# Altium schematic symbol library Componentes_base.SchLib: 431 symbols (part 4 of 12)
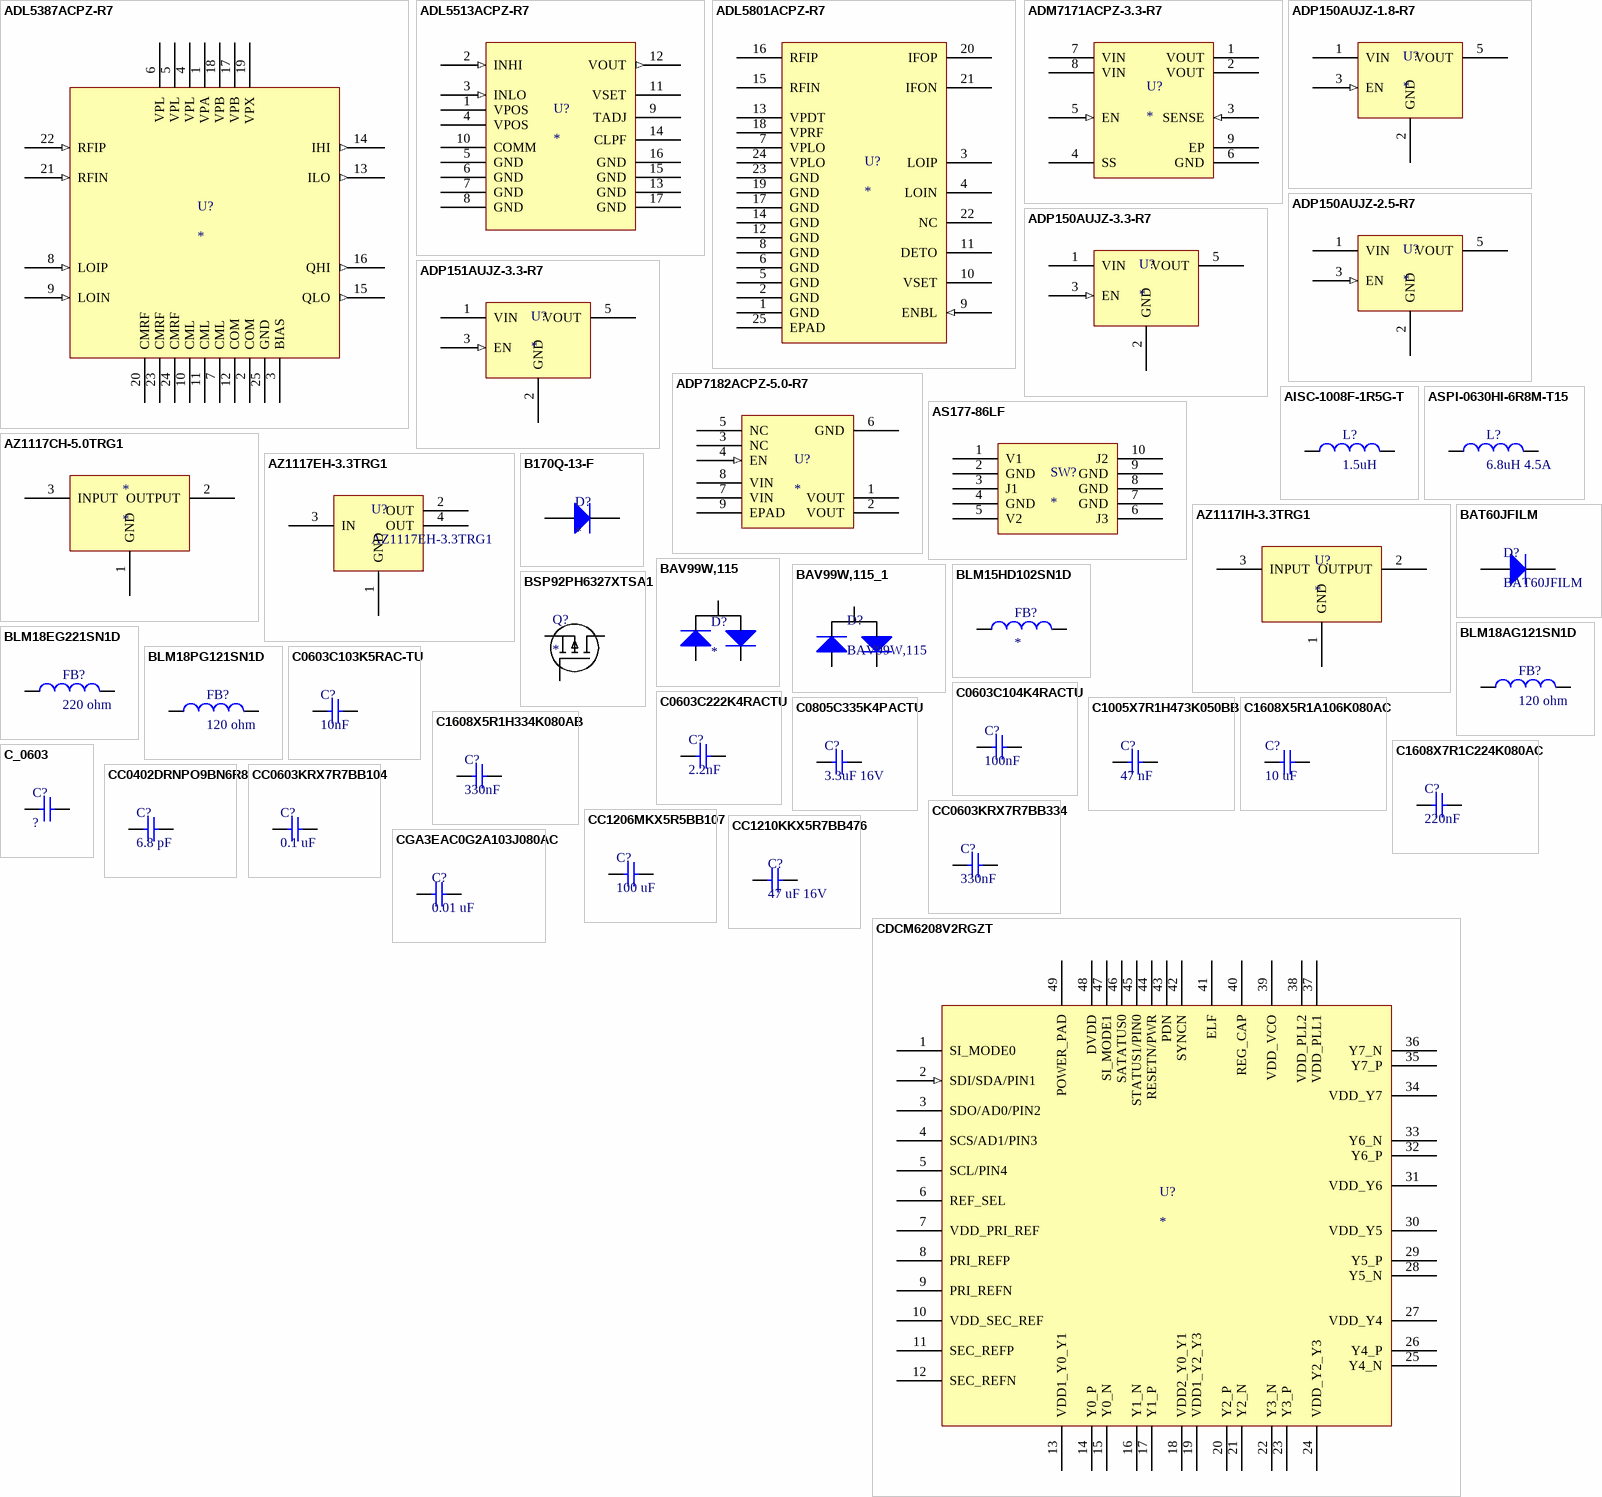
[diagram p17: symbols ADL5387ACPZ-R7 to CGA3EAC0G2A103J080AC]

## CC0402DRNPO9BN6R8
designator C?, comment 6.8 pF
CAP CER 6.8PF 50V NPO 0402; Manufacturer: Yageo; Manufacturer Part Number: CC0402DRNPO9BN6R8; Tolerance: ±0.5pF; Temperature Coefficient: C0G, NP0; Supplier 1: Digi-Key; RoHS: RoHS Compliant; Category: Capacitors; Stock 1: 8737; Pricing 1: 1=0.09, 10=0.019, 25=0.0132, 50=0.0098, 100=0.0081, 250=0.0068, 500=0.0058, 1000=0.00456, 5000=0.00381 (EUR); Packaging: Cut Tape (CT); Part Status: Active; Capacitance: 6.8pF; Voltage - Rated: 50V; Operating Temperature: -55°C ~ 125°C; Features: -; Ratings: -; Applications: General Purpose; Failure Rate: -; Mounting Type: Surface Mount, MLCC; Package / Case: 0402 (1005 Metric); Size / Dimension: 0.039" L x 0.020" W (1.00mm x 0.50mm); Height - Seated (Max): -; Thickness (Max): 0.022" (0.55mm); Lead Spacing: -; Lead Style: -; ComponentLink1URL: http://www.yageo.com/NewPortal/yageodocoutput?fileName=/pdf/MLCC/UPY-GP_NP0_16V-to-50V_14.pdf; ComponentLink1Description: http://www.yageo.com/NewPortal/yageodocoutput?fileName=/pdf/MLCC/UPY-GP_NP0_16V-to-50V_14.pdf; Supplier Part Number 1: 311-1637-1-ND
footprint Chip2PinSM127P600-8N_CAP0402
pins: 1, 2

## CC0603KRX7R7BB104
designator C?, comment 0.1 uF
CAP CER 0.1UF 16V X7R 0603; Manufacturer: Yageo; Manufacturer Part Number: CC0603KRX7R7BB104; Tolerance: 10; Capacitance: 100; Voltage Rating: 16; Min Temperature: -55; Material: Ceramic; Supplier 1: Digikey; Stock 1: 2351469; Pricing 1: 1=0.1, 10=0.019, 25=0.014, 50=0.0104, 100=0.0085, 250=0.0071, 500=0.0061, 1000=0.0048 (USD); Mount: Surface Mount; Case/Package: 0603; Pins: 2; Case Code (Metric): 1608; Case Code (Imperial): 0603; Min Operating Temperature: -55; Max Operating Temperature: 125; Dielectric: X7R; Voltage Rating (DC): 16; Package Quantity: 4000; Packaging: Tape and Reel; Termination: SMD; Composition: Ceramic; Voltage: 16; Length: 1.6; Height: 0.8; Width: 0.8; Thickness: 0.035; Depth: 0.8; Radiation Hardening: No; REACH SVHC: No SVHC; ComponentLink1URL: https://datasheet.ciiva.com/11786/0900766b80d84f1d-11786077.pdf; ComponentLink1Description: https://datasheet.ciiva.com/11786/0900766b80d84f1d-11786077.pdf; ComponentLink2URL: https://datasheet.ciiva.com/15165/getdatasheetpartid-63554-15165387.pdf; ComponentLink2Description: https://datasheet.ciiva.com/15165/getdatasheetpartid-63554-15165387.pdf; ComponentLink3URL: https://datasheet.ciiva.com/13395/upy-gphc-x7r-6-3v-to-50v-8-13395674.pdf; ComponentLink3Description: https://datasheet.ciiva.com/13395/upy-gphc-x7r-6-3v-to-50v-8-13395674.pdf; ComponentLink4URL: https://datasheet.ciiva.com/46430/1734573-46430156.pdf; ComponentLink4Description: https://datasheet.ciiva.com/46430/1734573-46430156.pdf; ComponentLink5URL: https://datasheet.ciiva.com/11464/upy-gphc-x7r-6-3v-to-50v-8-11464735.pdf; ComponentLink5Description: https://datasheet.ciiva.com/11464/upy-gphc-x7r-6-3v-to-50v-8-11464735.pdf; ComponentLink6URL: https://datasheet.ciiva.com/7978/1489800-7978141.pdf; ComponentLink6Description: https://datasheet.ciiva.com/7978/1489800-7978141.pdf; ComponentLink7URL: https://datasheet.ciiva.com/28450/1489800-28450552.pdf; ComponentLink7Description: https://datasheet.ciiva.com/28450/1489800-28450552.pdf; ComponentLink8URL: https://datasheet.ciiva.com/16625/upy-gphc-x7r-6-3v-to-50v-8-16625526.pdf; ComponentLink8Description: https://datasheet.ciiva.com/16625/upy-gphc-x7r-6-3v-to-50v-8-16625526.pdf; ComponentLink9URL: https://datasheet.ciiva.com/144/mlccorderingcode-144182.pdf; ComponentLink9Description: https://datasheet.ciiva.com/144/mlccorderingcode-144182.pdf; ComponentLink10URL: https://datasheet.ciiva.com/8033/1734573-8033797.pdf; ComponentLink10Description: https://datasheet.ciiva.com/8033/1734573-8033797.pdf; ComponentLink11URL: https://datasheet.ciiva.com/144/mlccorderingcode-144184.pdf; ComponentLink11Description: https://datasheet.ciiva.com/144/mlccorderingcode-144184.pdf; ComponentLink12URL: https://datasheet.ciiva.com/8033/70765-8033799.pdf; ComponentLink12Description: https://datasheet.ciiva.com/8033/70765-8033799.pdf; ComponentLink13URL: https://datasheet.ciiva.com/144/mlccorderingcode-144183.pdf; ComponentLink13Description: https://datasheet.ciiva.com/144/mlccorderingcode-144183.pdf; Supplier Part Number 1: 311-1088-1-ND
footprint CAPC1608X10L- 0603
footprint 0603 Cap (Chip Capacitor, Body 1.6x0.8mm, IPC High Density)
pins: 1, 2

## CC0603KRX7R7BB334
designator C?, comment 330nF
CAP CER 0.33UF 16V X7R 0603; Manufacturer: Yageo; Manufacturer Part Number: CC0603KRX7R7BB334; Capacitance: 0.33µF; Tolerance: ±10%; Notification: Current market demand for these product types have resulted in fluctuating and extending lead times. Lead times may differ.; Supplier 1: Digi-Key; RoHS: RoHS Compliant; Category: Capacitors; Stock 1: 26937; Pricing 1: 1=0.09, 10=0.065, 25=0.0476, 50=0.0358, 100=0.0292, 250=0.0244, 500=0.02084, 1000=0.01637 (EUR); Packaging: Digi-Reel®; Part Status: Active; Voltage - Rated: 16V; Temperature Coefficient: X7R; Operating Temperature: -55°C ~ 125°C; Features: -; Ratings: -; Applications: General Purpose; Failure Rate: -; Mounting Type: Surface Mount, MLCC; Package / Case: 0603 (1608 Metric); Size / Dimension: 0.063" L x 0.031" W (1.60mm x 0.80mm); Height - Seated (Max): -; Thickness (Max): 0.035" (0.90mm); Lead Spacing: -; Lead Style: -; ComponentLink1URL: http://www.yageo.com/documents/recent/UPY-GPHC_X7R_6.3V-to-50V_17.pdf; ComponentLink1Description: http://www.yageo.com/documents/recent/UPY-GPHC_X7R_6.3V-to-50V_17.pdf; Supplier Part Number 1: 311-2081-6-ND; Supplier 2: Digi-Key; Stock 2: 813; Pricing 2: 1=0.1, 10=0.076, 100=0.034, 500=0.02428, 1000=0.01907, 2500=0.01734, 5000=0.01596 (EUR); ComponentLink2URL: http://datasheets.avx.com/X7RDielectric.pdf; ComponentLink2Description: http://datasheets.avx.com/X7RDielectric.pdf; Supplier Part Number 2: 478-10124-1-ND
footprint 0603 Cap (Chip Capacitor, Body 1.6x0.8mm, IPC High Density)
pins: 1, 2

## CC1206MKX5R5BB107
designator C?, comment 100 uF
CAP CER 100UF 6.3V X5R 1206; Manufacturer: Yageo; Manufacturer Part Number: CC1206MKX5R5BB107; Capacitance: 100µF; Tolerance: ±20%; Supplier 1: Digi-Key; RoHS: RoHS Compliant; Category: Capacitors; Stock 1: 34925; Pricing 1: 1=0.53, 10=0.378, 25=0.3228, 50=0.2858, 100=0.249, 250=0.21208, 500=0.1844, 1000=0.15675 (EUR); Packaging: Cut Tape (CT); Part Status: Active; Voltage - Rated: 6.3V; Temperature Coefficient: X5R; Operating Temperature: -55°C ~ 85°C; Features: -; Ratings: -; Applications: General Purpose; Failure Rate: -; Mounting Type: Surface Mount, MLCC; Package / Case: 1206 (3216 Metric); Size / Dimension: 0.126" L x 0.063" W (3.20mm x 1.60mm); Height - Seated (Max): -; Thickness (Max): 0.075" (1.90mm); Lead Spacing: -; Lead Style: -; ComponentLink1URL: http://www.yageo.com/documents/recent/UPY-GPHC_X5R_4V-to-50V_23.pdf; ComponentLink1Description: http://www.yageo.com/documents/recent/UPY-GPHC_X5R_4V-to-50V_23.pdf; Supplier Part Number 1: 311-1991-1-ND
footprint CAPC3216X09L
pins: 1, 2

## CC1210KKX5R7BB476
designator C?, comment 47 uF 16V
CAP CER 47UF 16V X5R 1210; Manufacturer: Yageo; Manufacturer Part Number: CC1210KKX5R7BB476; Capacitance: 47µF; Tolerance: ±10%; Supplier 1: Digi-Key; RoHS: RoHS Compliant; Category: Capacitors; Stock 1: 5700; Pricing 1: 1=0.81, 10=0.688, 25=0.5708, 100=0.4021, 250=0.33724 (EUR); Packaging: Cut Tape (CT); Voltage - Rated: 16V; Temperature Coefficient: X5R; Mounting Type: Surface Mount, MLCC; Operating Temperature: -55°C ~ 85°C; Applications: General Purpose; Ratings: -; Package / Case: 1210 (3225 Metric); Size / Dimension: 0.126" L x 0.098" W (3.20mm x 2.50mm); Height - Seated (Max): -; Thickness (Max): 0.106" (2.70mm); Lead Spacing: -; Features: -; Lead Style: -; ComponentLink1URL: http://www.yageo.com/documents/recent/UPY-GPHC_X5R_4V-to-50V_19.pdf; ComponentLink1Description: http://www.yageo.com/documents/recent/UPY-GPHC_X5R_4V-to-50V_19.pdf; Supplier Part Number 1: 311-2019-1-ND
footprint CAPC3225X27L (Chip Capacitor, 2-Leads, Body 3,20x2,50mm, IPC High Density)
pins: 1, 2

## CDCM6208V2RGZT
designator U?
Clock Synthesizer/Jitter Cleaner 2:8 Ultra Low Power Low Jitter Clock Gen; Manufacturer: Texas Instruments; Manufacturer Part Number: CDCM6208V2RGZT; Number of Outputs: 8 Output; Input Level: CML, LVPECL, LVDS, LVCMOS, XTAL; Max Input Freq: 100 MHz; Max Output Freq: 800 MHz; Output Level: CML, HCSL, LVCMOS, LVDS, LVPECL; Supply Voltage - Max: 3.3 V; Supply Voltage - Min: - 0.5 V; PLL: Yes with Bypass; Input: CML, LVCMOS, LVDS, LVPECL, Crystal; Number of Circuits: 1; Differential - Input:Output: Yes/Yes; Frequency - Max: 800MHz; Divider/Multiplier: Yes/No; Voltage - Supply: 1.71 V ~ 3.465 V; Supplier 1: Mouser; Supplier Part Number 1: 595-CDCM6208V2RGZT; RoHS: RoHS Compliant; Category: Clock Synthesizer/Jitter Cleaner; Stock 1: 319; Pricing 1: 1=10.28, 10=9.34, 25=8.64, 50=8.17, 100=7.94, 250=7.23, 500=6.76, 750=6.44, 1000=6.24 (EUR); Package/Case: VQFN-48; Packaging: Reel; Series: CDCM6208; Brand: Texas Instruments; Mounting Style: SMD/SMT; Maximum Operating Temperature: + 85 C; Minimum Operating Temperature: - 40 C; Product Category: Clocking Circuits; Standard Pack Qty: 250; RoHS - Mouser: Y; Minimum Order Quantity: 1; Reeling: True; ComponentLink1URL: http://www.mouser.com/ds/2/405/cdcm6208-483952.pdf; ComponentLink1Description: http://www.mouser.com/ds/2/405/cdcm6208-483952.pdf; Supplier 2: Digi-Key; Supplier Part Number 2: 296-30502-1-ND; Stock 2: 523; Pricing 2: 1=10.79, 10=9.788, 25=9.0752, 100=8.315 (EUR); Type: *; Output: CML, HCSL, LVCMOS, LVDS, LVPECL; Ratio - Input:Output: 2:8; Operating Temperature: -40°C ~ 85°C; Mounting Type: Surface Mount; Package / Case: 48-VFQFN Exposed Pad; Supplier Device Package: 48-VQFN (7x7); ComponentLink2URL: http://www.ti.com/lit/ds/symlink/cdcm6208.pdf; ComponentLink2Description: http://www.ti.com/lit/ds/symlink/cdcm6208.pdf
footprint QFN50P700X700X100_HS-49N (QFN, 48-Leads, Body 7,00x7,00mm, Pitch 0,50mm, Thermal Pad 4,08x4,08mm, IPC Medium Density)
pins: 1 SI_MODE0, 2 SDI/SDA/PIN1 (in), 3 SDO/AD0/PIN2, 4 SCS/AD1/PIN3, 5 SCL/PIN4, 6 REF_SEL, 7 VDD_PRI_REF, 8 PRI_REFP, 9 PRI_REFN, 10 VDD_SEC_REF, 11 SEC_REFP, 12 SEC_REFN, 13 VDD1_Y0_Y1, 14 Y0_P, 15 Y0_N, 16 Y1_N, 17 Y1_P, 18 VDD2_Y0_Y1, 19 VDD1_Y2_Y3, 20 Y2_P, 21 Y2_N, 22 Y3_N, 23 Y3_P, 24 VDD_Y2_Y3, 25 Y4_N, 26 Y4_P, 27 VDD_Y4, 28 Y5_N, 29 Y5_P, 30 VDD_Y5, 31 VDD_Y6, 32 Y6_P, 33 Y6_N, 34 VDD_Y7, 35 Y7_P, 36 Y7_N, 37 VDD_PLL1, 38 VDD_PLL2, 39 VDD_VCO, 40 REG_CAP, 41 ELF, 42 SYNCN, 43 PDN, 44 RESETN/PWR, 45 STATUS1/PIN0, 46 SATATUS0, 47 SI_MODE1, 48 DVDD, 49 POWER_PAD

## CGA3EAC0G2A103J080AC
designator C?, comment 0.01 uF
Multilayer Ceramic Capacitors MLCC - SMD/SMT ESD 0603 0.01uF 100V C0G 5% 0.80mm; Manufacturer: TDK; Manufacturer Part Number: CGA3EAC0G2A103J080AC; Type: ESD Protection; Case Height: 0.8 mm; Case Length: 1.6 mm; Class: 1; Dielectric: C0G (NP0); Temperature Coefficient/Code: +/- 30 PPM / C; Product Status: New Product; Temperature Coefficient: C0G, NP0; Supplier 1: Mouser; Supplier Part Number 1: 810-CGA3EAC0G2A103JC; RoHS: RoHS Compliant; Category: Multilayer Ceramic Capacitors MLCC - SMD/SMT; Stock 1: 0; Pricing 1: 1=0.303, 10=0.165, 100=0.099, 1000=0.089, 4000=0.062, 8000=0.061, 24000=0.058, 48000=0.054, 100000=0.051 (EUR); Capacitance: 0.01 uF; Operating Temperature Range: - 55 C to + 125 C; Package/Case: 0603 (1608 metric); Packaging: Reel; Product: Automotive MLCCs; Series: CGA; Termination Style: SMD/SMT; Tolerance: 5 %; Voltage Rating DC: 100 V; Brand: TDK; Case Code - in: 0603; Case Code - mm: 1608; Case Width: 0.8 mm; Maximum Operating Temperature: + 125 C; Minimum Operating Temperature: - 55 C; Standard Pack Qty: 4000; RoHS - Mouser: Y; Minimum Order Quantity: 1; Reeling: True; ComponentLink1URL: http://www.mouser.com/ds/2/400/mlcc_automotive_esd_en-336153.pdf; ComponentLink1Description: http://www.mouser.com/ds/2/400/mlcc_automotive_esd_en-336153.pdf; Supplier 2: Digi-Key; Supplier Part Number 2: 445-16158-1-ND; Stock 2: 85; Pricing 2: 1=0.33, 10=0.282, 100=0.1414, 250=0.11308, 500=0.10298, 1000=0.09107 (EUR); Voltage - Rated: 100V; Mounting Type: Surface Mount, MLCC; Operating Temperature: -55°C ~ 125°C; Applications: Automotive, ESD Protection; Ratings: AEC-Q200; Package / Case: 0603 (1608 Metric); Size / Dimension: 0.063" L x 0.031" W (1.60mm x 0.80mm); Height - Seated (Max): -; Thickness (Max): 0.035" (0.90mm); Lead Spacing: -; Features: -; Lead Style: -; ComponentLink2URL: http://product.tdk.com/capacitor/mlcc/en/documents/mlcc_automotive_esd_en.pdf; ComponentLink2Description: http://product.tdk.com/capacitor/mlcc/en/documents/mlcc_automotive_esd_en.pdf
footprint CAPC1608X10L (Chip Capacitor, 2-Leads, Body 1,60x0,80mm, IPC High Density)
pins: 1, 2

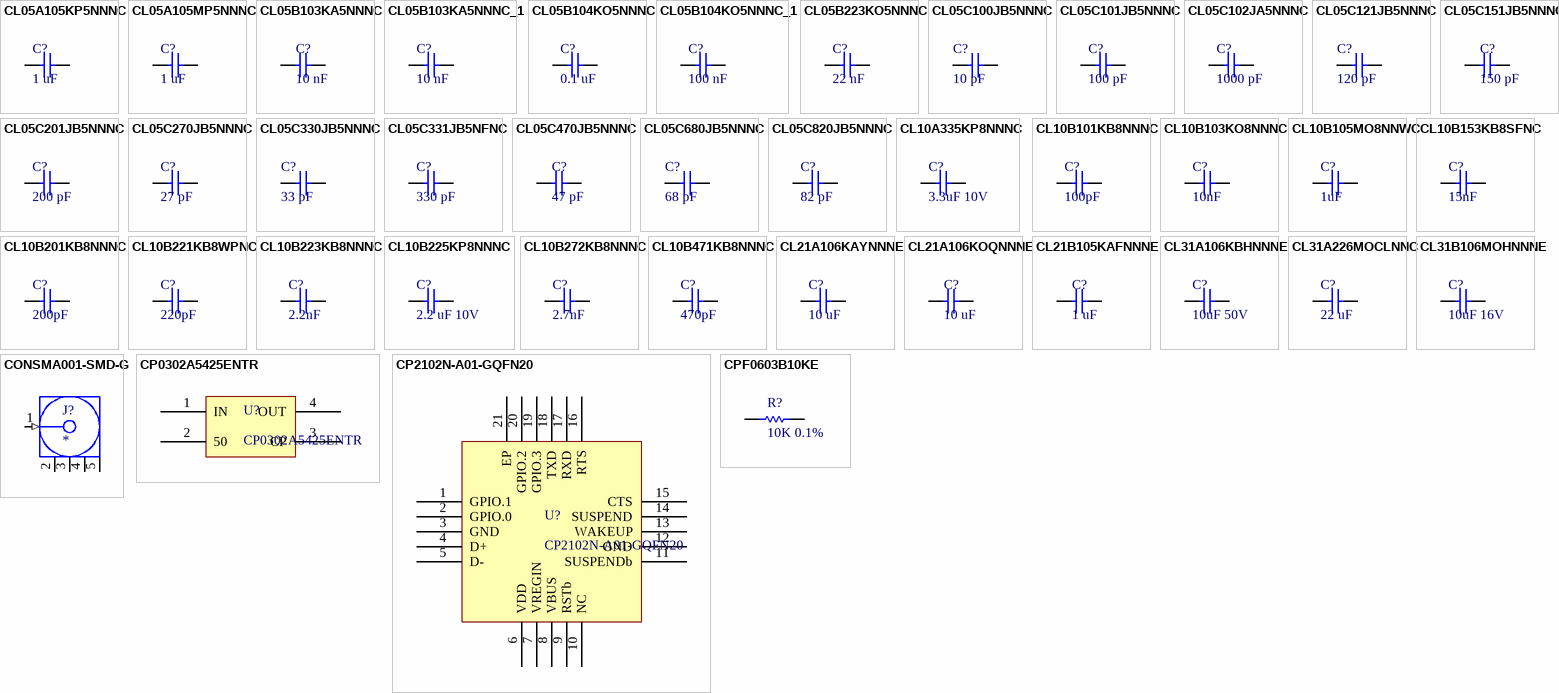
[diagram p4: symbols CL05A105KP5NNNC to CPF0603B10KE]

## CL05A105KP5NNNC
designator C?, comment 1 uF
CAP CER 1UF 10V 10% X5R 0402; Manufacturer: Samsung Electro-Mechanics America, Inc; Manufacturer Part Number: CL05A105KP5NNNC; Capacitance: 1.0µF; Supplier 1: Digi-Key; Supplier Part Number 1: 1276-1076-1-ND; RoHS: RoHS Compliant; Category: Capacitors; Stock 1: 785489; Pricing 1: 1=0.09, 10=0.04, 25=0.0284, 100=0.0184, 500=0.01288, 1000=0.01003, 2500=0.00903, 5000=0.00836 (EUR); Packaging: Cut Tape (CT); Tolerance: ±10%; Voltage - Rated: 10V; Temperature Coefficient: X5R; Mounting Type: Surface Mount, MLCC; Operating Temperature: -55°C ~ 85°C; Applications: General Purpose; Ratings: -; Package / Case: 0402 (1005 Metric); Size / Dimension: 0.039" L x 0.020" W (1.00mm x 0.50mm); Height - Seated (Max): -; Thickness (Max): 0.022" (0.55mm); Lead Spacing: -; Features: -; Lead Style: -; ComponentLink1URL: http://www.samsungsem.com/servlet/FileDownload?type=spec&file=CL05A105KP5NNNC.pdf; ComponentLink1Description: http://www.samsungsem.com/servlet/FileDownload?type=spec&file=CL05A105KP5NNNC.pdf
footprint CAPC1005X05L (Chip Capacitor, 2-Leads, Body 1,00x0,50mm, IPC High Density)
pins: 1, 2

## CL05A105MP5NNNC
designator C?, comment 1 uF
CAP CER 1UF 10V X5R 0402; Manufacturer: Samsung Electro-Mechanics America, Inc.; Manufacturer Part Number: CL05A105MP5NNNC; Capacitance: 1µF; Tolerance: ±20%; Supplier 1: Digi-Key; RoHS: RoHS Compliant; Category: Capacitors; Stock 1: 166466; Pricing 1: 1=0.09, 10=0.014, 25=0.01, 50=0.0074, 100=0.0062, 250=0.00512, 500=0.00438, 1000=0.00344, 5000=0.00288 (EUR); Packaging: Cut Tape (CT); Part Status: Active; Voltage - Rated: 10V; Temperature Coefficient: X5R; Operating Temperature: -55°C ~ 85°C; Features: -; Ratings: -; Applications: General Purpose; Mounting Type: Surface Mount, MLCC; Package / Case: 0402 (1005 Metric); Size / Dimension: 0.039" L x 0.020" W (1.00mm x 0.50mm); Height - Seated (Max): -; Thickness (Max): 0.022" (0.55mm); Lead Spacing: -; Lead Style: -; ComponentLink1URL: http://media.digikey.com/pdf/Data%20Sheets/Samsung%20PDFs/CL05A105MP5NNNC.pdf; ComponentLink1Description: http://media.digikey.com/pdf/Data%20Sheets/Samsung%20PDFs/CL05A105MP5NNNC.pdf; Supplier Part Number 1: 1276-1448-1-ND
footprint Chip2PinSM127P600-8N_CAP0402
pins: 1, 2

## CL05B103KA5NNNC
designator C?, comment 10 nF
CAP CER 10000PF 25V 10% X7R 0402; Manufacturer: Samsung Electro-Mechanics America, Inc; Manufacturer Part Number: CL05B103KA5NNNC; Supplier 1: Digi-Key; Supplier Part Number 1: 1276-1057-1-ND; RoHS: RoHS Compliant; Category: Capacitors; Stock 1: 397465; Pricing 1: 1=0.09, 10=0.011, 25=0.0076, 100=0.005, 500=0.00348, 1000=0.00272, 2500=0.00245, 5000=0.00227 (EUR); Packaging: Cut Tape (CT); Capacitance: 10000pF; Tolerance: ±10%; Voltage - Rated: 25V; Temperature Coefficient: X7R; Mounting Type: Surface Mount, MLCC; Operating Temperature: -55°C ~ 125°C; Applications: General Purpose; Ratings: -; Package / Case: 0402 (1005 Metric); Size / Dimension: 0.039" L x 0.020" W (1.00mm x 0.50mm); Height - Seated (Max): -; Thickness (Max): 0.022" (0.55mm); Lead Spacing: -; Features: -; Lead Style: -; ComponentLink1URL: http://www.samsungsem.com/servlet/FileDownload?type=spec&file=CL05B103KA5NNNC.pdf; ComponentLink1Description: http://www.samsungsem.com/servlet/FileDownload?type=spec&file=CL05B103KA5NNNC.pdf
footprint CAPC1005X05L (Chip Capacitor, 2-Leads, Body 1,00x0,50mm, IPC High Density)
pins: 1, 2

## CL05B103KA5NNNC_1
designator C?, comment 10 nF
CAP CER 10000PF 25V X7R 0402; Manufacturer: Samsung Electro-Mechanics America, Inc.; Manufacturer Part Number: CL05B103KA5NNNC; Tolerance: ±10%; Supplier 1: Digi-Key; RoHS: RoHS Compliant; Category: Capacitors; Stock 1: 615673; Pricing 1: 1=0.09, 10=0.009, 25=0.006, 50=0.0044, 100=0.0037, 250=0.00308, 500=0.00266, 1000=0.00208, 5000=0.00174 (EUR); Packaging: Cut Tape (CT); Part Status: Active; Capacitance: 10000pF; Voltage - Rated: 25V; Temperature Coefficient: X7R; Operating Temperature: -55°C ~ 125°C; Features: -; Ratings: -; Applications: General Purpose; Mounting Type: Surface Mount, MLCC; Package / Case: 0402 (1005 Metric); Size / Dimension: 0.039" L x 0.020" W (1.00mm x 0.50mm); Height - Seated (Max): -; Thickness (Max): 0.022" (0.55mm); Lead Spacing: -; Lead Style: -; ComponentLink1URL: http://www.samsungsem.com/kr/support/product-search/mlcc/__icsFiles/afieldfile/2016/08/18/S_CL05B103KA5NNNC.pdf; ComponentLink1Description: http://www.samsungsem.com/kr/support/product-search/mlcc/__icsFiles/afieldfile/2016/08/18/S_CL05B103KA5NNNC.pdf; Supplier Part Number 1: 1276-1057-1-ND
footprint Chip2PinSM127P600-8N_CAP0402
pins: 1, 2

## CL05B104KO5NNNC
designator C?, comment 0.1 uF
CAP CER 0.1UF 16V 10% X7R 0402; Manufacturer: Samsung Electro-Mechanics America, Inc; Manufacturer Part Number: CL05B104KO5NNNC; Capacitance: 0.1µF; Supplier 1: Digi-Key; Supplier Part Number 1: 1276-1001-1-ND; RoHS: RoHS Compliant; Category: Capacitors; Stock 1: 4178896; Pricing 1: 1=0.09, 10=0.013, 25=0.0096, 100=0.0061, 500=0.00424, 1000=0.0033, 2500=0.00297, 5000=0.00275 (EUR); Packaging: Cut Tape (CT); Tolerance: ±10%; Voltage - Rated: 16V; Temperature Coefficient: X7R; Mounting Type: Surface Mount, MLCC; Operating Temperature: -55°C ~ 125°C; Applications: General Purpose; Ratings: -; Package / Case: 0402 (1005 Metric); Size / Dimension: 0.039" L x 0.020" W (1.00mm x 0.50mm); Height - Seated (Max): -; Thickness (Max): 0.022" (0.55mm); Lead Spacing: -; Features: -; Lead Style: -; ComponentLink1URL: http://www.samsungsem.com/servlet/FileDownload?type=spec&file=CL05B104KO5NNNC.pdf; ComponentLink1Description: http://www.samsungsem.com/servlet/FileDownload?type=spec&file=CL05B104KO5NNNC.pdf
footprint CAPC1005X05L (Chip Capacitor, 2-Leads, Body 1,00x0,50mm, IPC High Density)
pins: 1, 2

## CL05B104KO5NNNC_1
designator C?, comment 100 nF
CAP CER 0.1UF 16V X7R 0402; Manufacturer: Samsung Electro-Mechanics America, Inc.; Manufacturer Part Number: CL05B104KO5NNNC; Capacitance: 0.1µF; Tolerance: ±10%; Supplier 1: Digi-Key; RoHS: RoHS Compliant; Category: Capacitors; Stock 1: 4665943; Pricing 1: 1=0.09, 10=0.01, 25=0.0076, 50=0.0054, 100=0.0045, 250=0.00372, 500=0.00322, 1000=0.00252, 5000=0.0021 (EUR); Packaging: Cut Tape (CT); Part Status: Active; Voltage - Rated: 16V; Temperature Coefficient: X7R; Operating Temperature: -55°C ~ 125°C; Features: -; Ratings: -; Applications: General Purpose; Mounting Type: Surface Mount, MLCC; Package / Case: 0402 (1005 Metric); Size / Dimension: 0.039" L x 0.020" W (1.00mm x 0.50mm); Height - Seated (Max): -; Thickness (Max): 0.022" (0.55mm); Lead Spacing: -; Lead Style: -; ComponentLink1URL: http://www.samsungsem.com/kr/support/product-search/mlcc/__icsFiles/afieldfile/2016/08/18/S_CL05B104KO5NNNC.pdf; ComponentLink1Description: http://www.samsungsem.com/kr/support/product-search/mlcc/__icsFiles/afieldfile/2016/08/18/S_CL05B104KO5NNNC.pdf; Supplier Part Number 1: 1276-1001-1-ND
footprint Chip2PinSM127P600-8N_CAP0402
pins: 1, 2

## CL05B223KO5NNNC
designator C?, comment 22 nF
CAP CER 0.022UF 16V 10% X7R 0402; Manufacturer: Samsung Electro-Mechanics America, Inc; Manufacturer Part Number: CL05B223KO5NNNC; Capacitance: 0.022µF; Supplier 1: Digi-Key; Supplier Part Number 1: 1276-1175-1-ND; RoHS: RoHS Compliant; Category: Capacitors; Stock 1: 195049; Pricing 1: 1=0.09, 10=0.013, 25=0.0092, 100=0.006, 500=0.0042, 1000=0.00327, 2500=0.00294, 5000=0.00273 (EUR); Packaging: Cut Tape (CT); Tolerance: ±10%; Voltage - Rated: 16V; Temperature Coefficient: X7R; Mounting Type: Surface Mount, MLCC; Operating Temperature: -55°C ~ 125°C; Applications: General Purpose; Ratings: -; Package / Case: 0402 (1005 Metric); Size / Dimension: 0.039" L x 0.020" W (1.00mm x 0.50mm); Height - Seated (Max): -; Thickness (Max): 0.022" (0.55mm); Lead Spacing: -; Features: -; Lead Style: -; ComponentLink1URL: http://www.samsungsem.com/servlet/FileDownload?type=spec&file=CL05B223KO5NNNC.pdf; ComponentLink1Description: http://www.samsungsem.com/servlet/FileDownload?type=spec&file=CL05B223KO5NNNC.pdf
footprint CAPC1005X05L (Chip Capacitor, 2-Leads, Body 1,00x0,50mm, IPC High Density)
pins: 1, 2

## CL05C100JB5NNNC
designator C?, comment 10 pF
CAP CER 10PF 50V 5% NP0 0402; Manufacturer: Samsung Electro-Mechanics America, Inc; Manufacturer Part Number: CL05C100JB5NNNC; Temperature Coefficient: C0G, NP0; Supplier 1: Digi-Key; Supplier Part Number 1: 1276-1139-1-ND; RoHS: RoHS Compliant; Category: Capacitors; Stock 1: 376482; Pricing 1: 1=0.09, 10=0.011, 25=0.008, 100=0.0052, 500=0.00366, 1000=0.00285, 2500=0.00256, 5000=0.00238 (EUR); Packaging: Cut Tape (CT); Capacitance: 10pF; Tolerance: ±5%; Voltage - Rated: 50V; Mounting Type: Surface Mount, MLCC; Operating Temperature: -55°C ~ 125°C; Applications: General Purpose; Ratings: -; Package / Case: 0402 (1005 Metric); Size / Dimension: 0.039" L x 0.020" W (1.00mm x 0.50mm); Height - Seated (Max): -; Thickness (Max): 0.022" (0.55mm); Lead Spacing: -; Features: -; Lead Style: -; ComponentLink1URL: http://www.samsungsem.com/servlet/FileDownload?type=spec&file=CL05C100JB5NNNC.pdf; ComponentLink1Description: http://www.samsungsem.com/servlet/FileDownload?type=spec&file=CL05C100JB5NNNC.pdf
footprint CAPC1005X05L (Chip Capacitor, 2-Leads, Body 1,00x0,50mm, IPC High Density)
pins: 1, 2

## CL05C101JB5NNNC
designator C?, comment 100 pF
CAP CER 100PF 50V 5% NP0 0402; Manufacturer: Samsung Electro-Mechanics America, Inc; Manufacturer Part Number: CL05C101JB5NNNC; Temperature Coefficient: C0G, NP0; Supplier 1: Digi-Key; Supplier Part Number 1: 1276-1025-1-ND; RoHS: RoHS Compliant; Category: Capacitors; Stock 1: 969963; Pricing 1: 1=0.09, 10=0.011, 25=0.008, 100=0.0052, 500=0.00366, 1000=0.00285, 2500=0.00256, 5000=0.00238 (EUR); Packaging: Cut Tape (CT); Capacitance: 100pF; Tolerance: ±5%; Voltage - Rated: 50V; Mounting Type: Surface Mount, MLCC; Operating Temperature: -55°C ~ 125°C; Applications: General Purpose; Ratings: -; Package / Case: 0402 (1005 Metric); Size / Dimension: 0.039" L x 0.020" W (1.00mm x 0.50mm); Height - Seated (Max): -; Thickness (Max): 0.022" (0.55mm); Lead Spacing: -; Features: -; Lead Style: -; ComponentLink1URL: http://www.samsungsem.com/servlet/FileDownload?type=spec&file=CL05C101JB5NNNC.pdf; ComponentLink1Description: http://www.samsungsem.com/servlet/FileDownload?type=spec&file=CL05C101JB5NNNC.pdf
footprint CAPC1005X05L (Chip Capacitor, 2-Leads, Body 1,00x0,50mm, IPC High Density)
pins: 1, 2

## CL05C102JA5NNNC
designator C?, comment 1000 pF
CAP CER 1000PF 25V 5% NP0 0402; Manufacturer: Samsung Electro-Mechanics America, Inc; Manufacturer Part Number: CL05C102JB5NNNC; Voltage - Rated: 50V; Temperature Coefficient: C0G, NP0; Supplier 1: Digi-Key; Supplier Part Number 1: 1276-1635-1-ND; RoHS: RoHS Compliant; Category: Capacitors; Stock 1: 50559; Pricing 1: 1=0.09, 10=0.053, 25=0.0372, 100=0.0242, 500=0.01694, 1000=0.0132, 2500=0.01188, 5000=0.011 (EUR); Packaging: Cut Tape (CT); Capacitance: 1000pF; Tolerance: ±5%; Mounting Type: Surface Mount, MLCC; Operating Temperature: -55°C ~ 125°C; Applications: General Purpose; Ratings: -; Package / Case: 0402 (1005 Metric); Size / Dimension: 0.039" L x 0.020" W (1.00mm x 0.50mm); Height - Seated (Max): -; Thickness (Max): 0.022" (0.55mm); Lead Spacing: -; Features: -; Lead Style: -; ComponentLink1URL: http://www.samsungsem.com/servlet/FileDownload?type=spec&file=CL05C102JB5NNNC.pdf; ComponentLink1Description: http://www.samsungsem.com/servlet/FileDownload?type=spec&file=CL05C102JB5NNNC.pdf
footprint CAPC1005X05L (Chip Capacitor, 2-Leads, Body 1,00x0,50mm, IPC High Density)
pins: 1, 2

## CL05C121JB5NNNC
designator C?, comment 120 pF
CAP CER 120PF 50V 5% NP0 0402; Manufacturer: Samsung Electro-Mechanics America, Inc; Manufacturer Part Number: CL05C121JB5NNNC; Temperature Coefficient: C0G, NP0; Supplier 1: Digi-Key; Supplier Part Number 1: 1276-1640-1-ND; RoHS: RoHS Compliant; Category: Capacitors; Stock 1: 63448; Pricing 1: 1=0.09, 10=0.018, 25=0.0128, 100=0.0083, 500=0.00576, 1000=0.00449, 2500=0.00404, 5000=0.00374 (EUR); Packaging: Cut Tape (CT); Capacitance: 120pF; Tolerance: ±5%; Voltage - Rated: 50V; Mounting Type: Surface Mount, MLCC; Operating Temperature: -55°C ~ 125°C; Applications: General Purpose; Ratings: -; Package / Case: 0402 (1005 Metric); Size / Dimension: 0.039" L x 0.020" W (1.00mm x 0.50mm); Height - Seated (Max): -; Thickness (Max): 0.022" (0.55mm); Lead Spacing: -; Features: -; Lead Style: -; ComponentLink1URL: http://www.samsungsem.com/servlet/FileDownload?type=spec&file=CL05C121JB5NNNC.pdf; ComponentLink1Description: http://www.samsungsem.com/servlet/FileDownload?type=spec&file=CL05C121JB5NNNC.pdf
footprint CAPC1005X05L (Chip Capacitor, 2-Leads, Body 1,00x0,50mm, IPC High Density)
pins: 1, 2

## CL05C151JB5NNNC
designator C?, comment 150 pF
CAP CER 150PF 50V 5% NP0 0402; Manufacturer: Samsung Electro-Mechanics America, Inc; Manufacturer Part Number: CL05C151JB5NNNC; Temperature Coefficient: C0G, NP0; Supplier 1: Digi-Key; Supplier Part Number 1: 1276-1046-1-ND; RoHS: RoHS Compliant; Category: Capacitors; Stock 1: 57280; Pricing 1: 1=0.09, 10=0.018, 25=0.0128, 100=0.0083, 500=0.00576, 1000=0.00449, 2500=0.00404, 5000=0.00374 (EUR); Packaging: Cut Tape (CT); Capacitance: 150pF; Tolerance: ±5%; Voltage - Rated: 50V; Mounting Type: Surface Mount, MLCC; Operating Temperature: -55°C ~ 125°C; Applications: General Purpose; Ratings: -; Package / Case: 0402 (1005 Metric); Size / Dimension: 0.039" L x 0.020" W (1.00mm x 0.50mm); Height - Seated (Max): -; Thickness (Max): 0.022" (0.55mm); Lead Spacing: -; Features: -; Lead Style: -; ComponentLink1URL: http://www.samsungsem.com/servlet/FileDownload?type=spec&file=CL05C151JB5NNNC.pdf; ComponentLink1Description: http://www.samsungsem.com/servlet/FileDownload?type=spec&file=CL05C151JB5NNNC.pdf
footprint CAPC1005X05L (Chip Capacitor, 2-Leads, Body 1,00x0,50mm, IPC High Density)
pins: 1, 2

## CL05C201JB5NNNC
designator C?, comment 200 pF
CAP CER 200PF 50V 5% NP0 0402; Manufacturer: Samsung Electro-Mechanics America, Inc; Manufacturer Part Number: CL05C201JB5NNNC; Temperature Coefficient: C0G, NP0; Supplier 1: Digi-Key; Supplier Part Number 1: 1276-1662-1-ND; RoHS: RoHS Compliant; Category: Capacitors; Stock 1: 59675; Pricing 1: 1=0.09, 10=0.058, 25=0.0412, 100=0.0267, 500=0.01864, 1000=0.01452, 2500=0.01307, 5000=0.0121 (EUR); Packaging: Cut Tape (CT); Capacitance: 200pF; Tolerance: ±5%; Voltage - Rated: 50V; Mounting Type: Surface Mount, MLCC; Operating Temperature: -55°C ~ 125°C; Applications: General Purpose; Ratings: -; Package / Case: 0402 (1005 Metric); Size / Dimension: 0.039" L x 0.020" W (1.00mm x 0.50mm); Height - Seated (Max): -; Thickness (Max): 0.022" (0.55mm); Lead Spacing: -; Features: -; Lead Style: -; ComponentLink1URL: http://www.samsungsem.com/servlet/FileDownload?type=spec&file=CL05C201JB5NNNC.pdf; ComponentLink1Description: http://www.samsungsem.com/servlet/FileDownload?type=spec&file=CL05C201JB5NNNC.pdf
footprint CAPC1005X05L (Chip Capacitor, 2-Leads, Body 1,00x0,50mm, IPC High Density)
pins: 1, 2

## CL05C270JB5NNNC
designator C?, comment 27 pF
CAP CER 27PF 50V NP0 0402; Manufacturer: Samsung Electro-Mechanics America, Inc.; Manufacturer Part Number: CL05C270JB5NNNC; Tolerance: ±5%; Temperature Coefficient: C0G, NP0; Supplier 1: Digi-Key; RoHS: RoHS Compliant; Category: Capacitors; Stock 1: 431057; Pricing 1: 1=0.09, 10=0.011, 25=0.008, 50=0.006, 100=0.0049, 250=0.00408, 500=0.00348, 1000=0.00273, 5000=0.00228 (EUR); Packaging: Cut Tape (CT); Part Status: Active; Capacitance: 27pF; Voltage - Rated: 50V; Operating Temperature: -55°C ~ 125°C; Features: -; Ratings: -; Applications: General Purpose; Mounting Type: Surface Mount, MLCC; Package / Case: 0402 (1005 Metric); Size / Dimension: 0.039" L x 0.020" W (1.00mm x 0.50mm); Height - Seated (Max): -; Thickness (Max): 0.022" (0.55mm); Lead Spacing: -; Lead Style: -; ComponentLink1URL: http://www.samsungsem.com/kr/support/product-search/mlcc/__icsFiles/afieldfile/2016/08/18/S_CL05C270JB5NNNC.pdf; ComponentLink1Description: http://www.samsungsem.com/kr/support/product-search/mlcc/__icsFiles/afieldfile/2016/08/18/S_CL05C270JB5NNNC.pdf; Supplier Part Number 1: 1276-1153-1-ND
footprint Chip2PinSM127P600-8N_CAP0402
pins: 1, 2

## CL05C330JB5NNNC
designator C?, comment 33 pF
CAP CER 33PF 50V 5% NP0 0402; Manufacturer: Samsung Electro-Mechanics America, Inc; Manufacturer Part Number: CL05C330JB5NNNC; Temperature Coefficient: C0G, NP0; Supplier 1: Digi-Key; Supplier Part Number 1: 1276-1272-1-ND; RoHS: RoHS Compliant; Category: Capacitors; Stock 1: 370425; Pricing 1: 1=0.09, 10=0.011, 25=0.008, 100=0.0054, 500=0.00374, 1000=0.0029, 2500=0.00262, 5000=0.00242 (EUR); Packaging: Cut Tape (CT); Capacitance: 33pF; Tolerance: ±5%; Voltage - Rated: 50V; Mounting Type: Surface Mount, MLCC; Operating Temperature: -55°C ~ 125°C; Applications: General Purpose; Ratings: -; Package / Case: 0402 (1005 Metric); Size / Dimension: 0.039" L x 0.020" W (1.00mm x 0.50mm); Height - Seated (Max): -; Thickness (Max): 0.022" (0.55mm); Lead Spacing: -; Features: -; Lead Style: -; ComponentLink1URL: http://www.samsungsem.com/servlet/FileDownload?type=spec&file=CL05C330JB5NNNC.pdf; ComponentLink1Description: http://www.samsungsem.com/servlet/FileDownload?type=spec&file=CL05C330JB5NNNC.pdf
footprint CAPC1005X05L (Chip Capacitor, 2-Leads, Body 1,00x0,50mm, IPC High Density)
pins: 1, 2

## CL05C331JB5NFNC
designator C?, comment 330 pF
CAP CER 330PF 50V NP0 0402; Manufacturer: Samsung Electro-Mechanics America, Inc.; Manufacturer Part Number: CL05C331JB5NFNC; Tolerance: ±5%; Temperature Coefficient: C0G, NP0; Supplier 1: Digi-Key; RoHS: RoHS Compliant; Category: Capacitors; Stock 1: 3400; Pricing 1: 1=0.09, 10=0.014, 25=0.0104, 50=0.0078, 100=0.0064, 250=0.00536, 500=0.00458, 1000=0.00359 (EUR); Packaging: Cut Tape (CT); Part Status: Discontinued at Digi-Key; Capacitance: 330pF; Voltage - Rated: 50V; Operating Temperature: -55°C ~ 125°C; Features: -; Ratings: -; Applications: General Purpose; Mounting Type: Surface Mount, MLCC; Package / Case: 0402 (1005 Metric); Size / Dimension: 0.039" L x 0.020" W (1.00mm x 0.50mm); Height - Seated (Max): -; Thickness (Max): 0.022" (0.55mm); Lead Spacing: -; Lead Style: -; ComponentLink1URL: http://www.samsungsem.com/kr/support/product-search/mlcc/__icsFiles/afieldfile/2016/08/18/S_CL05C331JB5NFNC.pdf; ComponentLink1Description: http://www.samsungsem.com/kr/support/product-search/mlcc/__icsFiles/afieldfile/2016/08/18/S_CL05C331JB5NFNC.pdf; Supplier Part Number 1: 1276-1684-1-ND
footprint Chip2PinSM127P600-8N_CAP0402
pins: 1, 2

## CL05C470JB5NNNC
designator C?, comment 47 pF
CAP CER 47PF 50V 5% NP0 0402; Manufacturer: Samsung Electro-Mechanics America, Inc; Manufacturer Part Number: CL05C470JB5NNNC; Temperature Coefficient: C0G, NP0; Supplier 1: Digi-Key; Supplier Part Number 1: 1276-1699-1-ND; RoHS: RoHS Compliant; Category: Capacitors; Stock 1: 271645; Pricing 1: 1=0.09, 10=0.011, 25=0.008, 100=0.0052, 500=0.00366, 1000=0.00285, 2500=0.00256, 5000=0.00238 (EUR); Packaging: Cut Tape (CT); Capacitance: 47pF; Tolerance: ±5%; Voltage - Rated: 50V; Mounting Type: Surface Mount, MLCC; Operating Temperature: -55°C ~ 125°C; Applications: General Purpose; Ratings: -; Package / Case: 0402 (1005 Metric); Size / Dimension: 0.039" L x 0.020" W (1.00mm x 0.50mm); Height - Seated (Max): -; Thickness (Max): 0.022" (0.55mm); Lead Spacing: -; Features: -; Lead Style: -; ComponentLink1URL: http://www.samsungsem.com/servlet/FileDownload?type=spec&file=CL05C470JB5NNNC.pdf; ComponentLink1Description: http://www.samsungsem.com/servlet/FileDownload?type=spec&file=CL05C470JB5NNNC.pdf
footprint CAPC1005X05L (Chip Capacitor, 2-Leads, Body 1,00x0,50mm, IPC High Density)
pins: 1, 2

## CL05C680JB5NNNC
designator C?, comment 68 pF
CAP CER 68PF 50V 5% NP0 0402; Manufacturer: Samsung Electro-Mechanics America, Inc; Manufacturer Part Number: CL05C680JB5NNNC; Temperature Coefficient: C0G, NP0; Supplier 1: Digi-Key; Supplier Part Number 1: 1276-1030-1-ND; RoHS: RoHS Compliant; Category: Capacitors; Stock 1: 192047; Pricing 1: 1=0.09, 10=0.011, 25=0.008, 100=0.0054, 500=0.00374, 1000=0.0029, 2500=0.00262, 5000=0.00242 (EUR); Packaging: Cut Tape (CT); Capacitance: 68pF; Tolerance: ±5%; Voltage - Rated: 50V; Mounting Type: Surface Mount, MLCC; Operating Temperature: -55°C ~ 125°C; Applications: General Purpose; Ratings: -; Package / Case: 0402 (1005 Metric); Size / Dimension: 0.039" L x 0.020" W (1.00mm x 0.50mm); Height - Seated (Max): -; Thickness (Max): 0.022" (0.55mm); Lead Spacing: -; Features: -; Lead Style: -; ComponentLink1URL: http://www.samsungsem.com/servlet/FileDownload?type=spec&file=CL05C680JB5NNNC.pdf; ComponentLink1Description: http://www.samsungsem.com/servlet/FileDownload?type=spec&file=CL05C680JB5NNNC.pdf
footprint CAPC1005X05L (Chip Capacitor, 2-Leads, Body 1,00x0,50mm, IPC High Density)
pins: 1, 2

## CL05C820JB5NNNC
designator C?, comment 82 pF
CAP CER 82PF 50V 5% NP0 0402; Manufacturer: Samsung Electro-Mechanics America, Inc; Manufacturer Part Number: CL05C820JB5NNNC; Temperature Coefficient: C0G, NP0; Supplier 1: Digi-Key; Supplier Part Number 1: 1276-1726-1-ND; RoHS: RoHS Compliant; Category: Capacitors; Stock 1: 17834; Pricing 1: 1=0.09, 10=0.011, 25=0.008, 100=0.0054, 500=0.00374, 1000=0.0029, 2500=0.00262, 5000=0.00242 (EUR); Packaging: Cut Tape (CT); Capacitance: 82pF; Tolerance: ±5%; Voltage - Rated: 50V; Mounting Type: Surface Mount, MLCC; Operating Temperature: -55°C ~ 125°C; Applications: General Purpose; Ratings: -; Package / Case: 0402 (1005 Metric); Size / Dimension: 0.039" L x 0.020" W (1.00mm x 0.50mm); Height - Seated (Max): -; Thickness (Max): 0.022" (0.55mm); Lead Spacing: -; Features: -; Lead Style: -; ComponentLink1URL: http://www.samsungsem.com/servlet/FileDownload?type=spec&file=CL05C820JB5NNNC.pdf; ComponentLink1Description: http://www.samsungsem.com/servlet/FileDownload?type=spec&file=CL05C820JB5NNNC.pdf
footprint CAPC1005X05L (Chip Capacitor, 2-Leads, Body 1,00x0,50mm, IPC High Density)
pins: 1, 2

## CL10A335KP8NNNC
designator C?, comment 3.3uF 10V
CAP CER 3.3UF 10V X5R 0603; Manufacturer: Samsung Electro-Mechanics America, Inc.; Manufacturer Part Number: CL10A335KP8NNNC; Capacitance: 3.3µF; Tolerance: ±10%; Supplier 1: Digi-Key; RoHS: RoHS Compliant; Category: Capacitors; Stock 1: 6628; Pricing 1: 1=0.2, 10=0.133, 25=0.0972, 50=0.0794, 100=0.0671, 250=0.0548, 500=0.04596, 1000=0.04065 (EUR); Packaging: Digi-Reel®; Part Status: Active; Voltage - Rated: 10V; Temperature Coefficient: X5R; Operating Temperature: -55°C ~ 85°C; Features: -; Ratings: -; Applications: General Purpose; Mounting Type: Surface Mount, MLCC; Package / Case: 0603 (1608 Metric); Size / Dimension: 0.063" L x 0.031" W (1.60mm x 0.80mm); Height - Seated (Max): -; Thickness (Max): 0.035" (0.90mm); Lead Spacing: -; Lead Style: -; ComponentLink1URL: http://www.samsungsem.com/kr/support/product-search/mlcc/__icsFiles/afieldfile/2016/08/18/S_CL10A335KP8NNNC.pdf; ComponentLink1Description: http://www.samsungsem.com/kr/support/product-search/mlcc/__icsFiles/afieldfile/2016/08/18/S_CL10A335KP8NNNC.pdf; Supplier Part Number 1: 1276-1892-6-ND
footprint 0603 Cap (Chip Capacitor, Body 1.6x0.8mm, IPC High Density)
pins: 1, 2

## CL10B101KB8NNNC
designator C?, comment 100pF
CAP CER 100PF 50V X7R 0603; Manufacturer: Samsung Electro-Mechanics America, Inc.; Manufacturer Part Number: CL10B101KB8NNNC; Tolerance: ±10%; Supplier 1: Digi-Key; RoHS: RoHS Compliant; Category: Capacitors; Stock 1: 270807; Pricing 1: 1=0.08, 10=0.026, 100=0.0116, 500=0.00832, 1000=0.00653 (EUR); Packaging: Cut Tape (CT); Part Status: Active; Voltage - Rated: 50V; Temperature Coefficient: X7R; Operating Temperature: -55°C ~ 125°C; Features: -; Ratings: -; Applications: General Purpose; Mounting Type: Surface Mount, MLCC; Package / Case: 0603 (1608 Metric); Size / Dimension: 0.063" L x 0.032" W (1.60mm x 0.80mm); Height - Seated (Max): -; Thickness (Max): 0.035" (0.90mm); Lead Spacing: -; Lead Style: -; ComponentLink1URL: http://media.digikey.com/pdf/Data%20Sheets/Samsung%20PDFs/CL_Series_MLCC_ds.pdf; ComponentLink1Description: http://media.digikey.com/pdf/Data%20Sheets/Samsung%20PDFs/CL_Series_MLCC_ds.pdf; Supplier Part Number 1: 1276-1909-1-ND
footprint 0603 Cap (Chip Capacitor, Body 1.6x0.8mm, IPC High Density)
pins: 1, 2

## CL10B103KO8NNNC
designator C?, comment 10nF
CAP CER 10000PF 16V X7R 0603; Manufacturer: Samsung Electro-Mechanics America, Inc.; Manufacturer Part Number: CL10B103KO8NNNC; Tolerance: ±10%; Supplier 1: Digi-Key; RoHS: RoHS Compliant; Category: Capacitors; Stock 1: 57987; Pricing 1: 1=0.09, 10=0.015, 25=0.0112, 50=0.0082, 100=0.0068, 250=0.00568, 500=0.00484, 1000=0.00381 (EUR); Packaging: Digi-Reel®; Part Status: Active; Capacitance: 10000pF; Voltage - Rated: 16V; Temperature Coefficient: X7R; Operating Temperature: -55°C ~ 125°C; Features: -; Ratings: -; Applications: General Purpose; Mounting Type: Surface Mount, MLCC; Package / Case: 0603 (1608 Metric); Size / Dimension: 0.063" L x 0.031" W (1.60mm x 0.80mm); Height - Seated (Max): -; Thickness (Max): 0.035" (0.90mm); Lead Spacing: -; Lead Style: -; ComponentLink1URL: http://www.samsungsem.com/kr/support/product-search/mlcc/__icsFiles/afieldfile/2016/08/18/S_CL10B103KO8NNNC.pdf; ComponentLink1Description: http://www.samsungsem.com/kr/support/product-search/mlcc/__icsFiles/afieldfile/2016/08/18/S_CL10B103KO8NNNC.pdf; Supplier Part Number 1: 1276-1926-6-ND
footprint 0603 Cap (Chip Capacitor, Body 1.6x0.8mm, IPC High Density)
pins: 1, 2

## CL10B105MO8NNWC
designator C?, comment 1uF
CAP CER 1UF 16V X7R 0603; Manufacturer: Samsung Electro-Mechanics America, Inc.; Manufacturer Part Number: CL10B105MO8NNWC; Capacitance: 1µF; Tolerance: ±20%; Supplier 1: Digi-Key; RoHS: RoHS Compliant; Category: Capacitors; Stock 1: 77746; Pricing 1: 1=0.09, 10=0.02, 25=0.0144, 50=0.0108, 100=0.0089, 250=0.00744, 500=0.00636, 1000=0.00499 (EUR); Packaging: Digi-Reel®; Part Status: Active; Voltage - Rated: 16V; Temperature Coefficient: X7R; Operating Temperature: -55°C ~ 125°C; Features: -; Ratings: -; Applications: General Purpose; Mounting Type: Surface Mount, MLCC; Package / Case: 0603 (1608 Metric); Size / Dimension: 0.063" L x 0.031" W (1.60mm x 0.80mm); Height - Seated (Max): -; Thickness (Max): 0.035" (0.90mm); Lead Spacing: -; Lead Style: -; ComponentLink1URL: http://www.samsungsem.com/kr/support/library/product-catalog/__icsFiles/afieldfile/2016/09/27/MLCC.pdf; ComponentLink1Description: http://www.samsungsem.com/kr/support/library/product-catalog/__icsFiles/afieldfile/2016/09/27/MLCC.pdf; Supplier Part Number 1: 1276-6524-6-ND
footprint 0603 Cap (Chip Capacitor, Body 1.6x0.8mm, IPC High Density)
pins: 1, 2

## CL10B153KB8SFNC
designator C?, comment 15nF
CAP CER 0.015UF 50V X7R 0603; Manufacturer: Samsung Electro-Mechanics America, Inc.; Manufacturer Part Number: CL10B153KB8SFNC; Capacitance: 0.015µF; Tolerance: ±10%; Supplier 1: Digi-Key; RoHS: RoHS Compliant; Category: Capacitors; Stock 1: 120523; Pricing 1: 1=0.09, 10=0.022, 25=0.016, 50=0.012, 100=0.0097, 250=0.00816, 500=0.00698, 1000=0.00548 (EUR); Packaging: Digi-Reel®; Part Status: Active; Voltage - Rated: 50V; Temperature Coefficient: X7R; Operating Temperature: -55°C ~ 125°C; Features: Soft Termination; Ratings: -; Applications: Boardflex Sensitive; Mounting Type: Surface Mount, MLCC; Package / Case: 0603 (1608 Metric); Size / Dimension: 0.063" L x 0.031" W (1.60mm x 0.80mm); Height - Seated (Max): -; Thickness (Max): 0.035" (0.90mm); Lead Spacing: -; Lead Style: -; ComponentLink1URL: http://www.samsungsem.com/kr/support/product-search/mlcc/CL10B153KB8SFNC.jsp; ComponentLink1Description: http://www.samsungsem.com/kr/support/product-search/mlcc/CL10B153KB8SFNC.jsp; Supplier Part Number 1: 1276-1967-6-ND
footprint 0603 Cap (Chip Capacitor, Body 1.6x0.8mm, IPC High Density)
pins: 1, 2

## CL10B201KB8NNNC
designator C?, comment 200pF
CAP CER 200PF 50V X7R 0603; Manufacturer: Samsung Electro-Mechanics America, Inc.; Manufacturer Part Number: CL10B201KB8NNNC; Tolerance: ±10%; Supplier 1: Digi-Key; RoHS: RoHS Compliant; Category: Capacitors; Stock 1: 10201; Pricing 1: 1=0.09, 10=0.01, 25=0.008, 50=0.0058, 100=0.0047, 250=0.00392, 500=0.00336, 1000=0.00265 (EUR); Packaging: Digi-Reel®; Part Status: Active; Capacitance: 200pF; Voltage - Rated: 50V; Temperature Coefficient: X7R; Operating Temperature: -55°C ~ 125°C; Features: -; Ratings: -; Applications: General Purpose; Mounting Type: Surface Mount, MLCC; Package / Case: 0603 (1608 Metric); Size / Dimension: 0.063" L x 0.031" W (1.60mm x 0.80mm); Height - Seated (Max): -; Thickness (Max): 0.035" (0.90mm); Lead Spacing: -; Lead Style: -; ComponentLink1URL: http://www.samsungsem.com/kr/support/product-search/mlcc/__icsFiles/afieldfile/2016/08/18/S_CL10B201KB8NNNC.pdf; ComponentLink1Description: http://www.samsungsem.com/kr/support/product-search/mlcc/__icsFiles/afieldfile/2016/08/18/S_CL10B201KB8NNNC.pdf; Supplier Part Number 1: 1276-1982-6-ND
footprint 0603 Cap (Chip Capacitor, Body 1.6x0.8mm, IPC High Density)
pins: 1, 2

## CL10B221KB8WPNC
designator C?, comment 220pF
CAP CER 220PF 50V X7R 0603; Manufacturer: Samsung Electro-Mechanics America, Inc.; Manufacturer Part Number: CL10B221KB8WPNC; Tolerance: ±10%; Supplier 1: Digi-Key; RoHS: RoHS Compliant; Category: Capacitors; Stock 1: 28547; Pricing 1: 1=0.09, 10=0.027, 100=0.0123, 500=0.0088, 1000=0.00691 (EUR); Packaging: Cut Tape (CT); Part Status: Active; Voltage - Rated: 50V; Temperature Coefficient: X7R; Operating Temperature: -55°C ~ 125°C; Features: Open Mode, Soft Termination; Ratings: AEC-Q200; Applications: Automotive, Boardflex Sensitive; Mounting Type: Surface Mount, MLCC; Package / Case: 0603 (1608 Metric); Size / Dimension: 0.063" L x 0.031" W (1.60mm x 0.80mm); Height - Seated (Max): -; Thickness (Max): 0.035" (0.90mm); Lead Spacing: -; Lead Style: -; ComponentLink1URL: http://www.samsungsem.com/kr/support/library/product-catalog/mlcc.jsp; ComponentLink1Description: http://www.samsungsem.com/kr/support/library/product-catalog/mlcc.jsp; Supplier Part Number 1: 1276-6536-1-ND
footprint 0603 Cap (Chip Capacitor, Body 1.6x0.8mm, IPC High Density)
pins: 1, 2

## CL10B223KB8NNNC
designator C?, comment 2.2nF
CAP CER 0.022UF 50V X7R 0603; Manufacturer: Samsung Electro-Mechanics America, Inc.; Manufacturer Part Number: CL10B223KB8NNNC; Capacitance: 0.022µF; Tolerance: ±10%; Supplier 1: Digi-Key; RoHS: RoHS Compliant; Category: Capacitors; Stock 1: 88868; Pricing 1: 1=0.09, 10=0.016, 25=0.0112, 50=0.0084, 100=0.0069, 250=0.0058, 500=0.00496, 1000=0.00389 (EUR); Packaging: Digi-Reel®; Part Status: Active; Voltage - Rated: 50V; Temperature Coefficient: X7R; Operating Temperature: -55°C ~ 125°C; Features: -; Ratings: -; Applications: General Purpose; Mounting Type: Surface Mount, MLCC; Package / Case: 0603 (1608 Metric); Size / Dimension: 0.063" L x 0.031" W (1.60mm x 0.80mm); Height - Seated (Max): -; Thickness (Max): 0.035" (0.90mm); Lead Spacing: -; Lead Style: -; ComponentLink1URL: http://www.samsungsem.com/kr/support/product-search/mlcc/CL10B223KB8NNNC.jsp; ComponentLink1Description: http://www.samsungsem.com/kr/support/product-search/mlcc/CL10B223KB8NNNC.jsp; Supplier Part Number 1: 1276-1104-6-ND
footprint 0603 Cap (Chip Capacitor, Body 1.6x0.8mm, IPC High Density)
pins: 1, 2

## CL10B225KP8NNNC
designator C?, comment 2.2 uF 10V
CAP CER 2.2UF 10V X7R 0603; Manufacturer: Samsung Electro-Mechanics America, Inc.; Manufacturer Part Number: CL10B225KP8NNNC; Capacitance: 2.2µF; Tolerance: ±10%; Supplier 1: Digi-Key; RoHS: RoHS Compliant; Category: Capacitors; Stock 1: 226342; Pricing 1: 1=0.15, 10=0.105, 25=0.0764, 50=0.0592, 100=0.0491, 250=0.04068, 500=0.03444, 1000=0.02851 (EUR); Packaging: Digi-Reel®; Part Status: Active; Voltage - Rated: 10V; Temperature Coefficient: X7R; Operating Temperature: -55°C ~ 125°C; Features: -; Ratings: -; Applications: General Purpose; Mounting Type: Surface Mount, MLCC; Package / Case: 0603 (1608 Metric); Size / Dimension: 0.063" L x 0.031" W (1.60mm x 0.80mm); Height - Seated (Max): -; Thickness (Max): 0.035" (0.90mm); Lead Spacing: -; Lead Style: -; ComponentLink1URL: http://www.samsungsem.com/kr/support/product-search/mlcc/__icsFiles/afieldfile/2016/08/18/S_CL10B225KP8NNNC.pdf; ComponentLink1Description: http://www.samsungsem.com/kr/support/product-search/mlcc/__icsFiles/afieldfile/2016/08/18/S_CL10B225KP8NNNC.pdf; Supplier Part Number 1: 1276-1134-6-ND
footprint 0603 Cap (Chip Capacitor, Body 1.6x0.8mm, IPC High Density)
pins: 1, 2

## CL10B272KB8NNNC
designator C?, comment 2.7nF
Cap Ceramic 0.0027uF 50V X7R 10% SMD 0603 125C Paper T/R; Manufacturer: Samsung; Manufacturer Part Number: CL10B272KB8NNNC; Capacitance: 2700 pF; Supplier 1: Digi-Key; Stock 1: 40000; Pricing 1: 1=0.1, 10=0.047, 100=0.0211, 500=0.0151, 1000=0.0119 (USD); Case Size/Dimension: 0603; Dielectric: X7R; Tolerance (%): ±10 %; Rated Voltage: 50 V; ComponentLink1URL: https://datasheet.ciiva.com/26877/getdatasheetpartid-660075-26877913.pdf; ComponentLink1Description: https://datasheet.ciiva.com/26877/getdatasheetpartid-660075-26877913.pdf; ComponentLink2URL: https://datasheet.ciiva.com/29198/457907-da-01-en-vs-kondensator-0603-29198584.pdf; ComponentLink2Description: https://datasheet.ciiva.com/29198/457907-da-01-en-vs-kondensator-0603-29198584.pdf; ComponentLink3URL: https://datasheet.ciiva.com/26310/mlcc-catalogdownload2013-eng-26310314.pdf; ComponentLink3Description: https://datasheet.ciiva.com/26310/mlcc-catalogdownload2013-eng-26310314.pdf; ComponentLink4URL: https://datasheet.ciiva.com/16205/cl05b104kq5nnnc-16205356.pdf; ComponentLink4Description: https://datasheet.ciiva.com/16205/cl05b104kq5nnnc-16205356.pdf; Supplier Part Number 1: 1276-2022-1-ND
footprint 0603 Cap (Chip Capacitor, Body 1.6x0.8mm, IPC High Density)
pins: 1, 2

## CL10B471KB8NNNC
designator C?, comment 470pF
CAP CER 470PF 50V X7R 0603; Manufacturer: Samsung Electro-Mechanics America, Inc.; Manufacturer Part Number: CL10B471KB8NNNC; Tolerance: ±10%; Supplier 1: Digi-Key; RoHS: RoHS Compliant; Category: Capacitors; Stock 1: 292872; Pricing 1: 1=0.09, 10=0.026, 100=0.0117, 500=0.00832, 1000=0.00653 (EUR); Packaging: Cut Tape (CT); Part Status: Active; Voltage - Rated: 50V; Temperature Coefficient: X7R; Operating Temperature: -55°C ~ 125°C; Features: -; Ratings: -; Applications: General Purpose; Mounting Type: Surface Mount, MLCC; Package / Case: 0603 (1608 Metric); Size / Dimension: 0.063" L x 0.031" W (1.60mm x 0.80mm); Height - Seated (Max): -; Thickness (Max): 0.035" (0.90mm); Lead Spacing: -; Lead Style: -; ComponentLink1URL: http://media.digikey.com/pdf/Data%20Sheets/Samsung%20PDFs/CL_Series_MLCC_ds.pdf; ComponentLink1Description: http://media.digikey.com/pdf/Data%20Sheets/Samsung%20PDFs/CL_Series_MLCC_ds.pdf; Supplier Part Number 1: 1276-1094-1-ND
footprint 0603 Cap (Chip Capacitor, Body 1.6x0.8mm, IPC High Density)
pins: 1, 2

## CL21A106KAYNNNE
designator C?, comment 10 uF
CAP CER 10UF 25V 10% X5R 0805; Manufacturer: Samsung Electro-Mechanics America, Inc; Manufacturer Part Number: CL21A106KAYNNNE; Capacitance: 10µF; Supplier 1: Digi-Key; Supplier Part Number 1: 1276-2891-1-ND; RoHS: RoHS Compliant; Category: Capacitors; Stock 1: 406675; Pricing 1: 1=0.22, 10=0.18, 25=0.124, 100=0.0901, 500=0.0597, 1000=0.05293 (EUR); Packaging: Cut Tape (CT); Tolerance: ±10%; Voltage - Rated: 25V; Temperature Coefficient: X5R; Mounting Type: Surface Mount, MLCC; Operating Temperature: -55°C ~ 85°C; Applications: General Purpose; Ratings: -; Package / Case: 0805 (2012 Metric); Size / Dimension: 0.079" L x 0.049" W (2.00mm x 1.25mm); Height - Seated (Max): -; Thickness (Max): 0.057" (1.45mm); Lead Spacing: -; Features: -; Lead Style: -; ComponentLink1URL: http://www.samsungsem.com/servlet/FileDownload?type=spec&file=CL21A106KAYNNNE.pdf; ComponentLink1Description: http://www.samsungsem.com/servlet/FileDownload?type=spec&file=CL21A106KAYNNNE.pdf
footprint CAPC2012X08L (Chip Capacitor, 2-Leads, Body 2,00x1,25mm, IPC High Density)
pins: 1, 2